# Altium schematic symbol library components.SchLib: 7 symbols
Pins are listed as number, name and electrical type; pins without a type are passive.

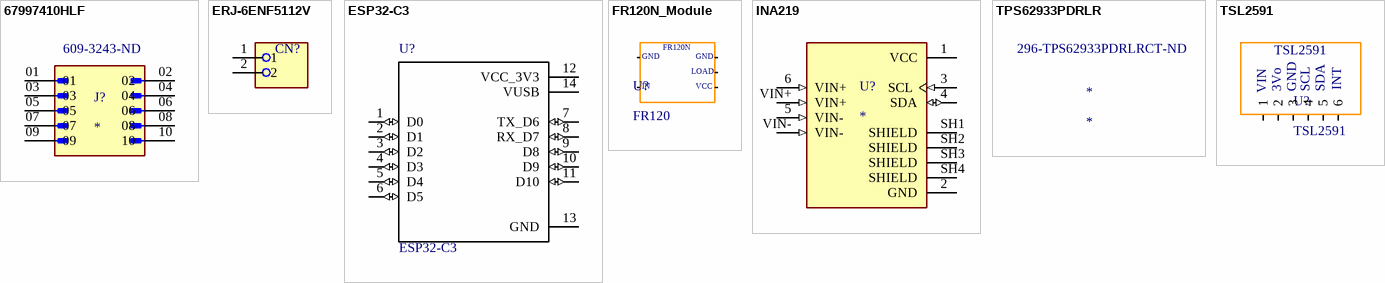
[diagram p0: symbols 67997410HLF to TSL2591]

## 67997410HLF
designator J?  Supplier Part Number 1: 609-3243-ND
Board Connector, 66 Contact(s), 2 Row(s), Male, Straight, Solder Terminal; Manufacturer: Amphenol Communications Solutions; Manufacturer Part Number: 67997410HLF; Supplier 1: Digikey; RoHS: No; Stock 1: 5093; Pricing 1: 1=0.28, 10=0.241, 100=0.2048, 500=0.18272, 1000=0.17399, 5000=0.1553, 10000=0.14789 (USD); ComponentLink1URL: https://datasheet.octopart.com/67997-410HLF-Amphenol-Communications-Solutions-datasheet-10288749.pdf?src-supplier=Farnell; ComponentLink1Description: https://datasheet.octopart.com/67997-410HLF-Amphenol-Communications-Solutions-datasheet-10288749.pdf?src-supplier=Farnell; ComponentLink2URL: https://datasheet.octopart.com/67997-410HLF-Areva-datasheet-15888151.pdf?src-supplier=Element14; ComponentLink2Description: https://datasheet.octopart.com/67997-410HLF-Areva-datasheet-15888151.pdf?src-supplier=Element14; ComponentLink3URL: https://datasheet.octopart.com/67997-410HLF-Amphenol-Communications-Solutions-datasheet-36854132.pdf?src-supplier=Electro+Sonic; ComponentLink3Description: https://datasheet.octopart.com/67997-410HLF-Amphenol-Communications-Solutions-datasheet-36854132.pdf?src-supplier=Electro+Sonic
footprint AMPHENOL_67997-410HLF
pins: 01, 02, 03, 04, 05, 06, 07, 08, 09, 10

## ERJ-6ENF5112V
designator CN?  (value not drawn)
SMD Chip Resistor, 51.1 kOhm, ± 1%, 125 mW, 0805 [2012 Metric], Thick Film, Precision; Manufacturer: Panasonic; Voltage Rating: 150V; Resistance: 51.1kR; Power Rating: 125mW; Temperature Coefficient: 100ppm/°C; Supplier 1: Mouser; Manufacturer Part Number: ERJ-6ENF5112V; RoHS: Yes; Category: Chip SMD Resistors; Stock 1: 18005; Pricing 1: 1=0.1, 10=0.04, 50=0.04, 100=0.028, 1000=0.017, 10000=0.01 (USD); Mount: Surface Mount; Case/Package: 0805; Contact Plating: Tin; Case Code (Metric): 2012; Case Code (Imperial): 0805; Min Operating Temperature: -55°C; Max Operating Temperature: 155°C; Packaging: Tape and Reel; Termination: SMD/SMT; Series: ERJ; Package Quantity: 5000; Tolerance: 1%; Resistor Type: Thick Film; Number of Terminations: 2; Max Power Dissipation: 125mW; Voltage Rating (DC): 150V; Features: Automotive AEC-Q200; Resistance Tolerance: 1%; Technology: THICK FILM; Length: 2mm; Width: 1.2mm; Height: 0.6mm; Depth: 1.25mm; Height - Seated (Max): 0.028inch; Reach SVHC Compliant: No; Lead Free: Lead Free; RoHS Compliant: Yes; ComponentLink1URL: https://datasheet.ciiva.com/34303/1989447-34303640.pdf?src-supplier=Jameco; ComponentLink1Description: https://datasheet.ciiva.com/34303/1989447-34303640.pdf?src-supplier=Jameco; ComponentLink2URL: https://datasheet.ciiva.com/5969/426256-5969528.pdf?src-supplier=Farnell; ComponentLink2Description: https://datasheet.ciiva.com/5969/426256-5969528.pdf?src-supplier=Farnell; ComponentLink3URL: https://datasheet.ciiva.com/9189/aoa0000ce2-9189038.pdf?src-supplier=Avnet; ComponentLink3Description: https://datasheet.ciiva.com/9189/aoa0000ce2-9189038.pdf?src-supplier=Avnet; ComponentLink4URL: https://datasheet.ciiva.com/28563/1678782-28563625.pdf?src-supplier=Element14; ComponentLink4Description: https://datasheet.ciiva.com/28563/1678782-28563625.pdf?src-supplier=Element14; ComponentLink5URL: https://datasheet.ciiva.com/28693/1678782-28693606.pdf?src-supplier=Element14; ComponentLink5Description: https://datasheet.ciiva.com/28693/1678782-28693606.pdf?src-supplier=Element14; ComponentLink6URL: https://datasheet.ciiva.com/46389/426256-46389422.pdf?src-supplier=Element14; ComponentLink6Description: https://datasheet.ciiva.com/46389/426256-46389422.pdf?src-supplier=Element14; ComponentLink7URL: https://datasheet.ciiva.com/24026/aoa0000ce2-24026453.pdf?src-supplier=Mouser; ComponentLink7Description: https://datasheet.ciiva.com/24026/aoa0000ce2-24026453.pdf?src-supplier=Mouser; ComponentLink8URL: https://datasheet.ciiva.com/16772/70260748-16772970.pdf?src-supplier=Allied+Electronics; ComponentLink8Description: https://datasheet.ciiva.com/16772/70260748-16772970.pdf?src-supplier=Allied+Electronics; ComponentLink9URL: https://datasheet.ciiva.com/16760/70260748-16760759.pdf?src-supplier=Allied+Electronics; ComponentLink9Description: https://datasheet.ciiva.com/16760/70260748-16760759.pdf?src-supplier=Allied+Electronics; ComponentLink10URL: https://datasheet.ciiva.com/30097/aoa0000ce2-30097854.pdf?src-supplier=Onlinecomponents.com; ComponentLink10Description: https://datasheet.ciiva.com/30097/aoa0000ce2-30097854.pdf?src-supplier=Onlinecomponents.com; Supplier Part Number 1: 667-ERJ-6ENF5112V
footprint PHOENIX_1935161
pins: 1, 2

## ESP32-C3
designator U?
SnapEDA_Link: https://www.snapeda.com/parts/113991054/Seeed+Studio/view-part/?ref=snap; Check_prices: https://www.snapeda.com/parts/113991054/Seeed+Studio/view-part/?ref=eda; Value: *
footprint ESP32-C3
pins: 1 D0 (io), 2 D1 (io), 3 D2 (io), 4 D3 (io), 5 D4 (io), 6 D5 (io), 7 TX_D6 (io), 8 RX_D7 (io), 9 D8 (io), 10 D9 (io), 11 D10 (io), 12 VCC_3V3 (power), 13 GND (power), 14 VUSB (power)

## FR120N_Module
designator U?, comment FR120
footprint FR120N_Module
pins: 1, 2, 3, 4, 5
text: FR120N; GND; LOAD; IN; VCC

## INA219
designator U?
MF: Adafruit Industries; MP: 904; Package: None; Price: None; Value: *; Availability: Unavailable
footprint INA219
pins: 1 VCC (power), 2 GND (power), 3 SCL (in), 4 SDA (io), 5 VIN- (in), 6 VIN+ (in), SH1 SHIELD, SH2 SHIELD, SH3 SHIELD, SH4 SHIELD, VIN+ (in), VIN- (in)

## TPS62933PDRLR
designator *  Supplier Part Number 1: 296-TPS62933PDRLRCT-ND
IC REG BUCK ADJ 3A SOT583 Buck Switching Regulator IC Positive Adjustable 0.8V 1 Output 3A SOT-583; Manufacturer: Texas Instruments; Manufacturer Part Number: TPS62933PDRLR; Supplier 1: Digikey; RoHS: No; Stock 1: 3830; Pricing 1: 1=1.04, 10=0.747, 25=0.6744, 100=0.5947, 250=0.55668, 500=0.53372, 1000=0.51483 (USD); Number of Pins: 8; Length: 2.1mm; Width: 1.2mm; Height: 600um; Thickness: 550um

## TSL2591
designator U?
footprint TSL2591
pins: 1, 2, 3, 4, 5, 6
text: INT; VIN; 3Vo; GND; SCL; SDA